# EAGLE library part LT3652 (library bschulz)
LT3652 - Power Tracking Battery Charger for Solar Power (MPPT) Characteristics: Vin: 4.95V ~ 32V VBat: <14.4V Charge Current: 2A Compatable Chemistries: Li-Ion, LiPO, LiFePO4, SLA Operating Temperature: -40°C to 85°C Digikey: LT3652EDD#PBF-ND (DD) <https://www.digikey.com/product-detail/en/linear-technology-analog-devices/LT3652EDD-PBF/LT3652EDD-PBF-ND/2138757> LT3652IMSE#PBF-ND (MSE) <https://www.digikey.com/product-detail/en/linear-technology-analog-devices/LT3652IMSE-PBF/LT3652IMSE-PBF-ND/2237473>
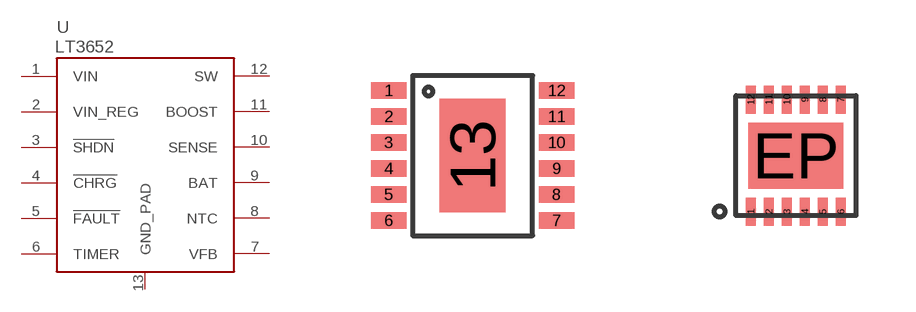
[diagram p65: symbol with the pads of MSOP-12_GND; footprints MSOP-12_GND, DFN_12_3X3]

Designator prefix U

## LT3652MSE (DIGIKEY: LT3652IMSE#PBF-ND; MF: LT; MPN: LT3652IMSE#PBF; VALUE: LT3652)  [MSOP-12_GND]
1  VIN
2  VIN_REG
3  !SHDN
4  !CHRG
5  !FAULT
6  TIMER
7  VFB
8  NTC
9  BAT
10  SENSE
11  BOOST
12  SW
13  GND_PAD

## LT3652DD (DIGIKEY: LT3652EDD#PBF-ND; MF: LT; MPN: LT3652EDD#PBF)  [DFN_12_3X3]
1  VIN
2  VIN_REG
3  !SHDN
4  !CHRG
5  !FAULT
6  TIMER
7  VFB
8  NTC
9  BAT
10  SENSE
11  BOOST
12  SW
EP  GND_PAD

## Footprint MSOP-12_GND (pad centres in mm)
smd 0.889 x 0.42: 1 -2.1,1.625; 2 -2.1,0.975; 3 -2.1,0.325; 4 -2.1,-0.325; 5 -2.1,-0.975; 6 -2.1,-1.625; 7 2.1,-1.625; 8 2.1,-0.975; 9 2.1,-0.325; 10 2.1,0.325; 11 2.1,0.975; 12 2.1,1.625
smd 1.651 x 2.845: 13 0,0

## Footprint DFN_12_3X3 (pad centres in mm)
12 Pin DFN, 3x3 mm package
smd 0.25 x 0.7: 1 -1.125,-1.4; 2 -0.675,-1.4; 3 -0.225,-1.4; 4 0.225,-1.4; 5 0.675,-1.4; 6 1.125,-1.4; 7 1.125,1.4; 8 0.675,1.4; 9 0.225,1.4; 10 -0.225,1.4; 11 -0.675,1.4; 12 -1.125,1.4
smd 2.38 x 1.65: EP 0,0